# EAGLE library part FLAT-FLEX-CONNECTOR-VERT-14POS (library FlashPCB_Connectors)
FLAT-FLEX-CONNECTOR-VERT-14POS - Flat Flex Connector 14 position Vertical Technical Specifications: Number of Positions: 14 Contact: One Side Mount: Vertical
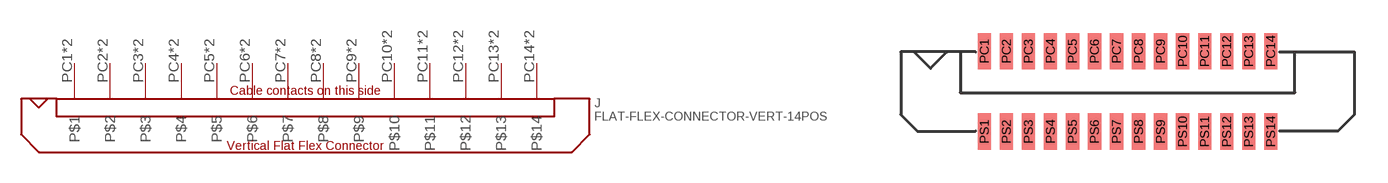
[diagram p127: symbol with the pads of FLAT-FLEX-CONNECTOR-MOLEX-52610-VERT-14POS; footprint FLAT-FLEX-CONNECTOR-MOLEX-52610-VERT-14POS]

Designator prefix J

## FLAT-FLEX-CONNECTOR-VERT-14POS1MM-PITCH  [FLAT-FLEX-CONNECTOR-MOLEX-52610-VERT-14POS]
PC1  P$1
PC2  P$2
PC3  P$3
PC4  P$4
PC5  P$5
PC6  P$6
PC7  P$7
PC8  P$8
PC9  P$9
PC10  P$10
PC11  P$11
PC12  P$12
PC13  P$13
PC14  P$14
PS1  P$1
PS2  P$2
PS3  P$3
PS4  P$4
PS5  P$5
PS6  P$6
PS7  P$7
PS8  P$8
PS9  P$9
PS10  P$10
PS11  P$11
PS12  P$12
PS13  P$13
PS14  P$14

## Footprint FLAT-FLEX-CONNECTOR-MOLEX-52610-VERT-14POS (pad centres in mm)
smd 0.6 x 1.65: PC1 -6.5,1.825; PC2 -5.5,1.825; PC3 -4.5,1.825; PC4 -3.5,1.825; PC5 -2.5,1.825; PC6 -1.5,1.825; PC7 -0.5,1.825; PC8 0.5,1.825; PC9 1.5,1.825; PC10 2.5,1.825; PC11 3.5,1.825; PC12 4.5,1.825; PC13 5.5,1.825; PC14 6.5,1.825; PS1 -6.5,-1.825; PS2 -5.5,-1.825; PS3 -4.5,-1.825; PS4 -3.5,-1.825; PS5 -2.5,-1.825; PS6 -1.5,-1.825; PS7 -0.5,-1.825; PS8 0.5,-1.825; PS9 1.5,-1.825; PS10 2.5,-1.825; PS11 3.5,-1.825; PS12 4.5,-1.825; PS13 5.5,-1.825; PS14 6.5,-1.825